# Altium schematic symbol library Integrated_Library1.SCHLIB: 1 symbol
Pins are listed as number, name and electrical type; pins without a type are passive.

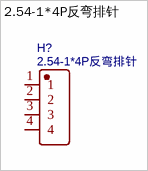
[diagram p0: symbol 2.54-1*4P反弯排针]

## 2.54-1*4P反弯排针
designator H?
BOM_Manufacturer: BOOMELE(博穆精密); Contributor: LCSC; BOM_Supplier: LCSC; BOM_Supplier Part: C91552; BOM_Manufacturer Part: 2.54-1*4P反弯排针; BOM_JLCPCB Part Class: Extended Part; spicePre: H; spiceSymbolName: 2.54-1*4P反弯排针
footprint HDR-TH_4P-P2.54-H-M-W10.4
pins: 1, 2, 3, 4